# Altium footprint library SOP_65P_M.PcbLib: 39 footprints (part 2 of 3)
Each footprint in its own frame and in the unit in brackets; x right, y up, seen from the top. Pads: shape width x height; smd on the part's side, far side on the other; paste and mask are expansions set on the pad; w line width, h text height; cw(c..) or ccw(c..) is an arc to the next point about the centre after c.
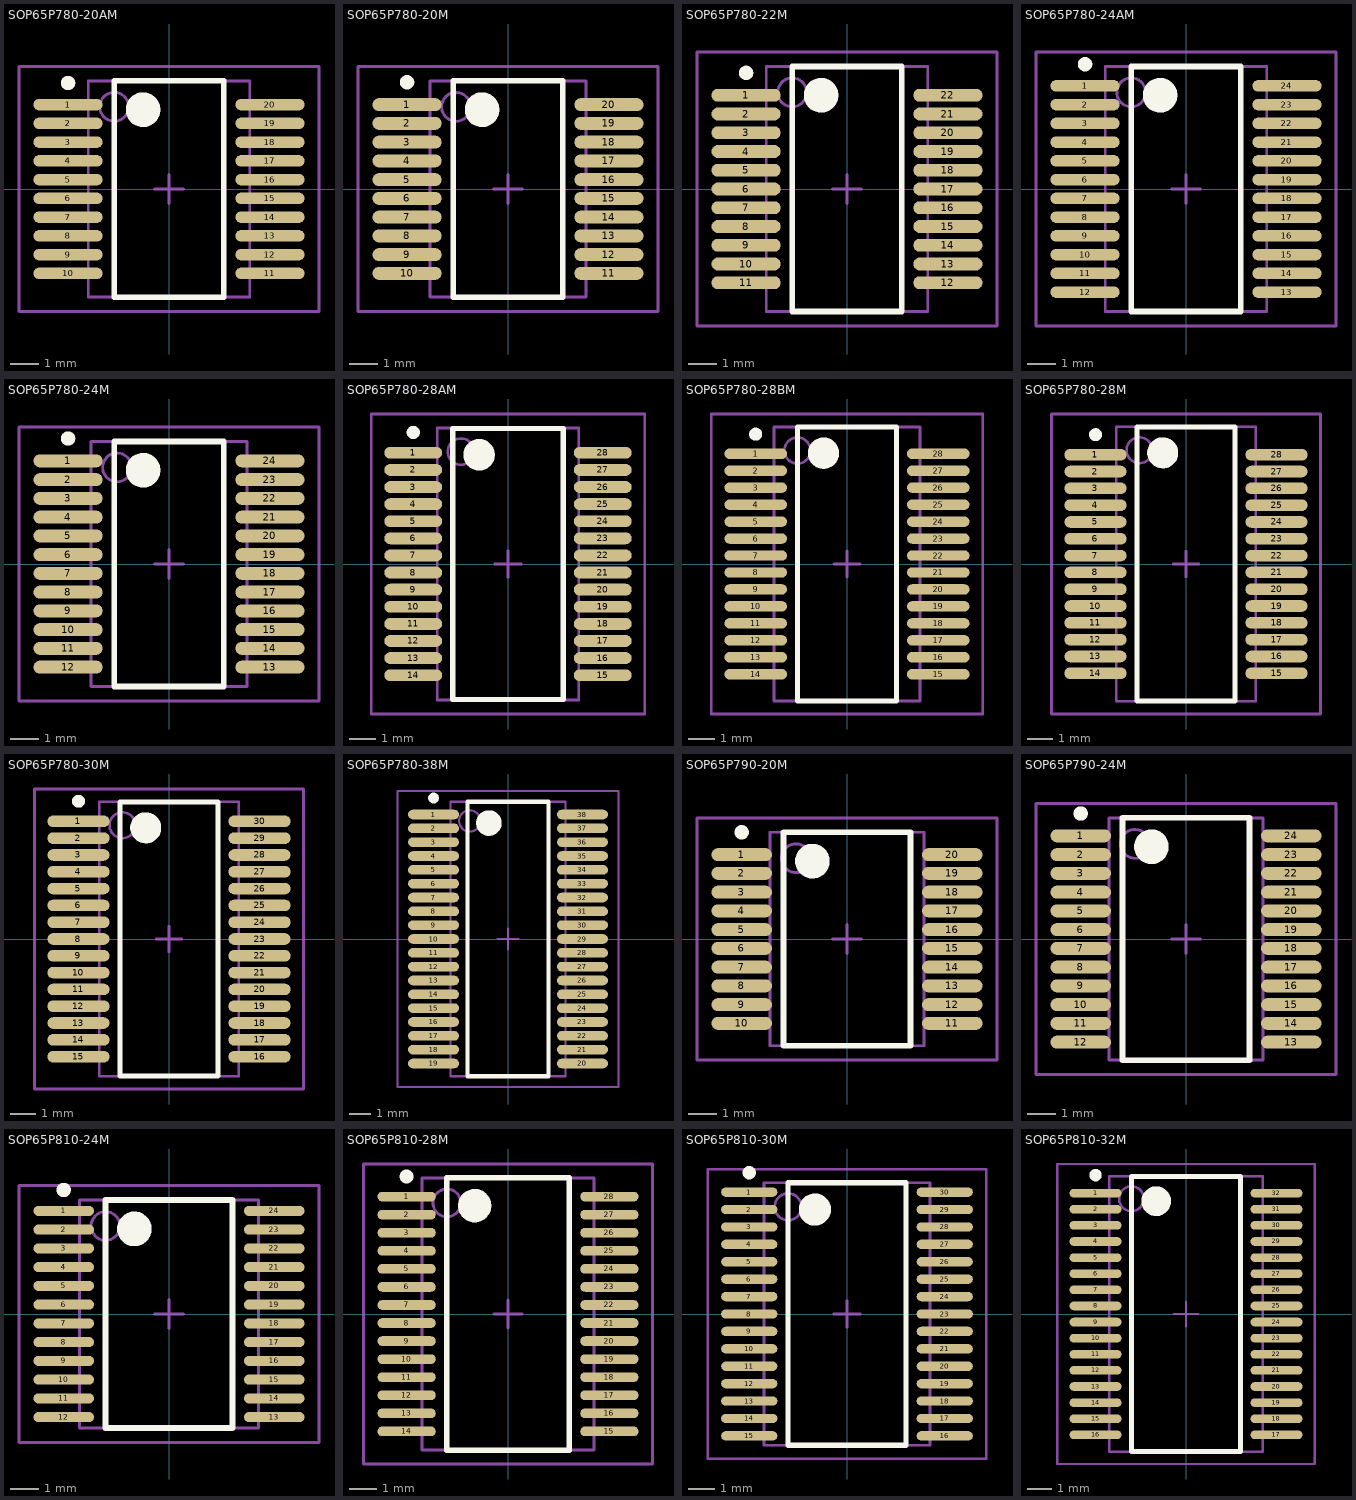
[diagram p1: the footprints below, top view; thin cyan lines are the x and y axes]

## SOP65P780-20AM [mm] "SOP, 20-Leads, Body 7.2x5.3mm, Pitch 0.65mm, IPC Low Density"
height 2
pads (20):
  oval 2.4x0.4 smd: 1(-3.5,2.925) 2(-3.5,2.275) 3(-3.5,1.625) 4(-3.5,0.975) 5(-3.5,0.325) 6(-3.5,-0.325) 7(-3.5,-0.975) 8(-3.5,-1.625) 9(-3.5,-2.275) 10(-3.5,-2.925) 11(3.5,-2.925) 12(3.5,-2.275) 13(3.5,-1.625) 14(3.5,-0.975) 15(3.5,-0.325) 16(3.5,0.325) 17(3.5,0.975) 18(3.5,1.625) 19(3.5,2.275) 20(3.5,2.925)
Top Overlay:
  circle w0.25: c-3.5,3.675 r0.125
  circle w0.6: c-0.9,2.75 r0.3
  lines w0.2: -1.9,-3.75 -1.9,3.75 1.9,3.75 1.9,-3.75 -1.9,-3.75
Mechanical 13:
  circle w0.1: c-1.9,2.85 r0.5
  lines w0.1: -2.8,-3.75 -2.8,3.75 2.8,3.75 2.8,-3.75 -2.8,-3.75
Mechanical 15:
  lines w0.1: -0.5,0 0.5,0 ; 0,-0.5 0,0.5 ; -5.2,-4.25 -5.2,4.25 5.2,4.25 5.2,-4.25 -5.2,-4.25
3D body: height 2, standoff 0, extent -2.8,-3.75 2.8,3.75

## SOP65P780-20M [mm] "SOP, 20-Leads, Body 7.2x5.3mm, Pitch 0.65mm, IPC Low Density"
height 1.98
pads (20):
  oval 2.4x0.45 smd: 1(-3.5,2.925) 2(-3.5,2.275) 3(-3.5,1.625) 4(-3.5,0.975) 5(-3.5,0.325) 6(-3.5,-0.325) 7(-3.5,-0.975) 8(-3.5,-1.625) 9(-3.5,-2.275) 10(-3.5,-2.925) 11(3.5,-2.925) 12(3.5,-2.275) 13(3.5,-1.625) 14(3.5,-0.975) 15(3.5,-0.325) 16(3.5,0.325) 17(3.5,0.975) 18(3.5,1.625) 19(3.5,2.275) 20(3.5,2.925)
Top Overlay:
  circle w0.25: c-3.5,3.7 r0.125
  circle w0.6: c-0.9,2.75 r0.3
  lines w0.2: -1.9,-3.75 -1.9,3.75 1.9,3.75 1.9,-3.75 -1.9,-3.75
Mechanical 13:
  circle w0.1: c-1.8,2.85 r0.5
  lines w0.1: -2.7,-3.75 -2.7,3.75 2.7,3.75 2.7,-3.75 -2.7,-3.75
Mechanical 15:
  lines w0.1: -0.5,0 0.5,0 ; 0,-0.5 0,0.5 ; -5.2,-4.25 -5.2,4.25 5.2,4.25 5.2,-4.25 -5.2,-4.25
3D body: height 1.98, standoff 0, extent -2.7,-3.75 2.7,3.75

## SOP65P780-22M [mm] "SOP, 22-Leads, Body 8.2x5.3mm, Pitch 0.65mm, IPC Low Density"
height 2
pads (22):
  oval 2.4x0.45 smd: 1(-3.5,3.25) 2(-3.5,2.6) 3(-3.5,1.95) 4(-3.5,1.3) 5(-3.5,0.65) 6(-3.5,0) 7(-3.5,-0.65) 8(-3.5,-1.3) 9(-3.5,-1.95) 10(-3.5,-2.6) 11(-3.5,-3.25) 12(3.5,-3.25) 13(3.5,-2.6) 14(3.5,-1.95) 15(3.5,-1.3) 16(3.5,-0.65) 17(3.5,0) 18(3.5,0.65) 19(3.5,1.3) 20(3.5,1.95) 21(3.5,2.6) 22(3.5,3.25)
Top Overlay:
  circle w0.25: c-3.5,4.025 r0.125
  circle w0.6: c-0.9,3.25 r0.3
  lines w0.2: -1.9,-4.25 -1.9,4.25 1.9,4.25 1.9,-4.25 -1.9,-4.25
Mechanical 13:
  circle w0.1: c-1.9,3.35 r0.5
  lines w0.1: -2.8,-4.25 -2.8,4.25 2.8,4.25 2.8,-4.25 -2.8,-4.25
Mechanical 15:
  lines w0.1: -0.5,0 0.5,0 ; 0,-0.5 0,0.5 ; -5.2,-4.75 -5.2,4.75 5.2,4.75 5.2,-4.75 -5.2,-4.75
3D body: height 2, standoff 0, extent -2.8,-4.25 2.8,4.25

## SOP65P780-24AM [mm] "SOP, 24-Leads, Body 8.2x5.3mm, Pitch 0.65mm, IPC Low Density"
height 2
pads (24):
  oval 2.4x0.4 smd: 1(-3.5,3.575) 2(-3.5,2.925) 3(-3.5,2.275) 4(-3.5,1.625) 5(-3.5,0.975) 6(-3.5,0.325) 7(-3.5,-0.325) 8(-3.5,-0.975) 9(-3.5,-1.625) 10(-3.5,-2.275) 11(-3.5,-2.925) 12(-3.5,-3.575) 13(3.5,-3.575) 14(3.5,-2.925) 15(3.5,-2.275) 16(3.5,-1.625) 17(3.5,-0.975) 18(3.5,-0.325) 19(3.5,0.325) 20(3.5,0.975) 21(3.5,1.625) 22(3.5,2.275) 23(3.5,2.925) 24(3.5,3.575)
Top Overlay:
  circle w0.25: c-3.5,4.325 r0.125
  circle w0.6: c-0.9,3.25 r0.3
  lines w0.2: -1.9,-4.25 -1.9,4.25 1.9,4.25 1.9,-4.25 -1.9,-4.25
Mechanical 13:
  circle w0.1: c-1.9,3.35 r0.5
  lines w0.1: -2.8,-4.25 -2.8,4.25 2.8,4.25 2.8,-4.25 -2.8,-4.25
Mechanical 15:
  lines w0.1: -0.5,0 0.5,0 ; 0,-0.5 0,0.5 ; -5.2,-4.75 -5.2,4.75 5.2,4.75 5.2,-4.75 -5.2,-4.75
3D body: height 2, standoff 0, extent -2.8,-4.25 2.8,4.25

## SOP65P780-24M [mm] "SOP, 24-Leads, Body 8.2x5.3mm, Pitch 0.65mm, IPC Low Density"
height 1.78
pads (24):
  oval 2.4x0.45 smd: 1(-3.5,3.575) 2(-3.5,2.925) 3(-3.5,2.275) 4(-3.5,1.625) 5(-3.5,0.975) 6(-3.5,0.325) 7(-3.5,-0.325) 8(-3.5,-0.975) 9(-3.5,-1.625) 10(-3.5,-2.275) 11(-3.5,-2.925) 12(-3.5,-3.575) 13(3.5,-3.575) 14(3.5,-2.925) 15(3.5,-2.275) 16(3.5,-1.625) 17(3.5,-0.975) 18(3.5,-0.325) 19(3.5,0.325) 20(3.5,0.975) 21(3.5,1.625) 22(3.5,2.275) 23(3.5,2.925) 24(3.5,3.575)
Top Overlay:
  circle w0.25: c-3.5,4.35 r0.125
  circle w0.6: c-0.9,3.25 r0.3
  lines w0.2: -1.9,-4.25 -1.9,4.25 1.9,4.25 1.9,-4.25 -1.9,-4.25
Mechanical 13:
  circle w0.1: c-1.8,3.35 r0.5
  lines w0.1: -2.7,-4.25 -2.7,4.25 2.7,4.25 2.7,-4.25 -2.7,-4.25
Mechanical 15:
  lines w0.1: -0.5,0 0.5,0 ; 0,-0.5 0,0.5 ; -5.2,-4.75 -5.2,4.75 5.2,4.75 5.2,-4.75 -5.2,-4.75
3D body: height 1.78, standoff 0, extent -2.7,-4.25 2.7,4.25

## SOP65P780-28AM [mm] "SOP, 28-Leads, Body 10.2x5.3mm, Pitch 0.65mm, IPC Low Density"
height 1.98
pads (28):
  oval 2.2x0.45 smd: 1(-3.6,4.225) 2(-3.6,3.575) 3(-3.6,2.925) 4(-3.6,2.275) 5(-3.6,1.625) 6(-3.6,0.975) 7(-3.6,0.325) 8(-3.6,-0.325) 9(-3.6,-0.975) 10(-3.6,-1.625) 11(-3.6,-2.275) 12(-3.6,-2.925) 13(-3.6,-3.575) 14(-3.6,-4.225) 15(3.6,-4.225) 16(3.6,-3.575) 17(3.6,-2.925) 18(3.6,-2.275) 19(3.6,-1.625) 20(3.6,-0.975) 21(3.6,-0.325) 22(3.6,0.325) 23(3.6,0.975) 24(3.6,1.625) 25(3.6,2.275) 26(3.6,2.925) 27(3.6,3.575) 28(3.6,4.225)
Top Overlay:
  circle w0.25: c-3.6,5 r0.125
  circle w0.6: c-1.1,4.15 r0.3
  lines w0.2: -2.1,-5.15 -2.1,5.15 2.1,5.15 2.1,-5.15 -2.1,-5.15
Mechanical 13:
  circle w0.1: c-1.79,4.27 r0.5
  lines w0.1: -2.69,-5.17 -2.69,5.17 2.69,5.17 2.69,-5.17 -2.69,-5.17
Mechanical 15:
  lines w0.1: -0.5,0 0.5,0 ; 0,-0.5 0,0.5 ; -5.2,-5.7 -5.2,5.7 5.2,5.7 5.2,-5.7 -5.2,-5.7
3D body: height 1.98, standoff 0, extent -2.69,-5.17 2.69,5.17

## SOP65P780-28BM [mm] "SOP, 28-Leads, Body 10.2x5.3mm, Pitch 0.65mm, IPC Low Density"
height 2
pads (28):
  oval 2.4x0.4 smd: 1(-3.5,4.225) 2(-3.5,3.575) 3(-3.5,2.925) 4(-3.5,2.275) 5(-3.5,1.625) 6(-3.5,0.975) 7(-3.5,0.325) 8(-3.5,-0.325) 9(-3.5,-0.975) 10(-3.5,-1.625) 11(-3.5,-2.275) 12(-3.5,-2.925) 13(-3.5,-3.575) 14(-3.5,-4.225) 15(3.5,-4.225) 16(3.5,-3.575) 17(3.5,-2.925) 18(3.5,-2.275) 19(3.5,-1.625) 20(3.5,-0.975) 21(3.5,-0.325) 22(3.5,0.325) 23(3.5,0.975) 24(3.5,1.625) 25(3.5,2.275) 26(3.5,2.925) 27(3.5,3.575) 28(3.5,4.225)
Top Overlay:
  circle w0.25: c-3.5,4.975 r0.125
  circle w0.6: c-0.9,4.25 r0.3
  lines w0.2: -1.9,-5.25 -1.9,5.25 1.9,5.25 1.9,-5.25 -1.9,-5.25
Mechanical 13:
  circle w0.1: c-1.9,4.35 r0.5
  lines w0.1: -2.8,-5.25 -2.8,5.25 2.8,5.25 2.8,-5.25 -2.8,-5.25
Mechanical 15:
  lines w0.1: -0.5,0 0.5,0 ; 0,-0.5 0,0.5 ; -5.2,-5.75 -5.2,5.75 5.2,5.75 5.2,-5.75 -5.2,-5.75
3D body: height 2, standoff 0, extent -2.8,-5.25 2.8,5.25

## SOP65P780-28M [mm] "SOP, 28-Leads, Body 10.2x5.3mm, Pitch 0.65mm, IPC Low Density"
height 2
pads (28):
  oval 2.4x0.45 smd: 1(-3.5,4.225) 2(-3.5,3.575) 3(-3.5,2.925) 4(-3.5,2.275) 5(-3.5,1.625) 6(-3.5,0.975) 7(-3.5,0.325) 8(-3.5,-0.325) 9(-3.5,-0.975) 10(-3.5,-1.625) 11(-3.5,-2.275) 12(-3.5,-2.925) 13(-3.5,-3.575) 14(-3.5,-4.225) 15(3.5,-4.225) 16(3.5,-3.575) 17(3.5,-2.925) 18(3.5,-2.275) 19(3.5,-1.625) 20(3.5,-0.975) 21(3.5,-0.325) 22(3.5,0.325) 23(3.5,0.975) 24(3.5,1.625) 25(3.5,2.275) 26(3.5,2.925) 27(3.5,3.575) 28(3.5,4.225)
Top Overlay:
  circle w0.25: c-3.5,5 r0.125
  circle w0.6: c-0.9,4.3 r0.3
  lines w0.2: -1.9,-5.3 -1.9,5.3 1.9,5.3 1.9,-5.3 -1.9,-5.3
Mechanical 13:
  circle w0.1: c-1.8,4.4 r0.5
  lines w0.1: -2.7,-5.3 -2.7,5.3 2.7,5.3 2.7,-5.3 -2.7,-5.3
Mechanical 15:
  lines w0.1: -0.5,0 0.5,0 ; 0,-0.5 0,0.5 ; -5.2,-5.8 -5.2,5.8 5.2,5.8 5.2,-5.8 -5.2,-5.8
3D body: height 2, standoff 0, extent -2.7,-5.3 2.7,5.3

## SOP65P780-30M [mm] "SOP, 30-Leads, Body 10.2x5.3mm, Pitch 0.65mm, IPC Low Density"
height 2
pads (30):
  oval 2.4x0.45 smd: 1(-3.5,4.55) 2(-3.5,3.9) 3(-3.5,3.25) 4(-3.5,2.6) 5(-3.5,1.95) 6(-3.5,1.3) 7(-3.5,0.65) 8(-3.5,0) 9(-3.5,-0.65) 10(-3.5,-1.3) 11(-3.5,-1.95) 12(-3.5,-2.6) 13(-3.5,-3.25) 14(-3.5,-3.9) 15(-3.5,-4.55) 16(3.5,-4.55) 17(3.5,-3.9) 18(3.5,-3.25) 19(3.5,-2.6) 20(3.5,-1.95) 21(3.5,-1.3) 22(3.5,-0.65) 23(3.5,0) 24(3.5,0.65) 25(3.5,1.3) 26(3.5,1.95) 27(3.5,2.6) 28(3.5,3.25) 29(3.5,3.9) 30(3.5,4.55)
Top Overlay:
  circle w0.25: c-3.5,5.325 r0.125
  circle w0.6: c-0.9,4.3 r0.3
  lines w0.2: -1.9,-5.3 -1.9,5.3 1.9,5.3 1.9,-5.3 -1.9,-5.3
Mechanical 13:
  circle w0.1: c-1.8,4.4 r0.5
  lines w0.1: -2.7,-5.3 -2.7,5.3 2.7,5.3 2.7,-5.3 -2.7,-5.3
Mechanical 15:
  lines w0.1: -0.5,0 0.5,0 ; 0,-0.5 0,0.5 ; -5.2,-5.8 -5.2,5.8 5.2,5.8 5.2,-5.8 -5.2,-5.8
3D body: height 2, standoff 0, extent -2.7,-5.3 2.7,5.3

## SOP65P780-38M [mm] "SOP, 38-Leads, Body 12.6x5.3mm, Pitch 0.65mm, IPC Low Density"
height 2
pads (38):
  oval 2.4x0.45 smd: 1(-3.5,5.85) 2(-3.5,5.2) 3(-3.5,4.55) 4(-3.5,3.9) 5(-3.5,3.25) 6(-3.5,2.6) 7(-3.5,1.95) 8(-3.5,1.3) 9(-3.5,0.65) 10(-3.5,0) 11(-3.5,-0.65) 12(-3.5,-1.3) 13(-3.5,-1.95) 14(-3.5,-2.6) 15(-3.5,-3.25) 16(-3.5,-3.9) 17(-3.5,-4.55) 18(-3.5,-5.2) 19(-3.5,-5.85) 20(3.5,-5.85) 21(3.5,-5.2) 22(3.5,-4.55) 23(3.5,-3.9) 24(3.5,-3.25) 25(3.5,-2.6) 26(3.5,-1.95) 27(3.5,-1.3) 28(3.5,-0.65) 29(3.5,0) 30(3.5,0.65) 31(3.5,1.3) 32(3.5,1.95) 33(3.5,2.6) 34(3.5,3.25) 35(3.5,3.9) 36(3.5,4.55) 37(3.5,5.2) 38(3.5,5.85)
Top Overlay:
  circle w0.25: c-3.5,6.625 r0.125
  circle w0.6: c-0.9,5.45 r0.3
  lines w0.2: -1.9,-6.45 -1.9,6.45 1.9,6.45 1.9,-6.45 -1.9,-6.45
Mechanical 13:
  circle w0.1: c-1.8,5.55 r0.5
  lines w0.1: -2.7,-6.45 -2.7,6.45 2.7,6.45 2.7,-6.45 -2.7,-6.45
Mechanical 15:
  lines w0.1: -0.5,0 0.5,0 ; 0,-0.5 0,0.5 ; -5.2,-6.95 -5.2,6.95 5.2,6.95 5.2,-6.95 -5.2,-6.95
3D body: height 2, standoff 0, extent -2.7,-6.45 2.7,6.45

## SOP65P790-20M [mm] "SOP, 20-Leads, Body 7.3x5.3mm, Pitch 0.65mm, IPC Low Density"
height 2.02
pads (20):
  oval 2.1x0.45 smd: 1(-3.65,2.925) 2(-3.65,2.275) 3(-3.65,1.625) 4(-3.65,0.975) 5(-3.65,0.325) 6(-3.65,-0.325) 7(-3.65,-0.975) 8(-3.65,-1.625) 9(-3.65,-2.275) 10(-3.65,-2.925) 11(3.65,-2.925) 12(3.65,-2.275) 13(3.65,-1.625) 14(3.65,-0.975) 15(3.65,-0.325) 16(3.65,0.325) 17(3.65,0.975) 18(3.65,1.625) 19(3.65,2.275) 20(3.65,2.925)
Top Overlay:
  circle w0.25: c-3.65,3.7 r0.125
  circle w0.6: c-1.2,2.7 r0.3
  lines w0.2: -2.2,-3.7 -2.2,3.7 2.2,3.7 2.2,-3.7 -2.2,-3.7
Mechanical 13:
  circle w0.1: c-1.775,2.8 r0.5
  lines w0.1: -2.675,-3.7 -2.675,3.7 2.675,3.7 2.675,-3.7 -2.675,-3.7
Mechanical 15:
  lines w0.1: -0.5,0 0.5,0 ; 0,-0.5 0,0.5 ; -5.2,-4.2 -5.2,4.2 5.2,4.2 5.2,-4.2 -5.2,-4.2
3D body: height 2.02, standoff 0, extent -2.675,-3.7 2.675,3.7

## SOP65P790-24M [mm] "SOP, 24-Leads, Body 8.2x5.3mm, Pitch 0.65mm, IPC Low Density"
height 2.02
pads (24):
  oval 2.1x0.45 smd: 1(-3.65,3.575) 2(-3.65,2.925) 3(-3.65,2.275) 4(-3.65,1.625) 5(-3.65,0.975) 6(-3.65,0.325) 7(-3.65,-0.325) 8(-3.65,-0.975) 9(-3.65,-1.625) 10(-3.65,-2.275) 11(-3.65,-2.925) 12(-3.65,-3.575) 13(3.65,-3.575) 14(3.65,-2.925) 15(3.65,-2.275) 16(3.65,-1.625) 17(3.65,-0.975) 18(3.65,-0.325) 19(3.65,0.325) 20(3.65,0.975) 21(3.65,1.625) 22(3.65,2.275) 23(3.65,2.925) 24(3.65,3.575)
Top Overlay:
  circle w0.25: c-3.65,4.35 r0.125
  circle w0.6: c-1.2,3.2 r0.3
  lines w0.2: -2.2,-4.2 -2.2,4.2 2.2,4.2 2.2,-4.2 -2.2,-4.2
Mechanical 13:
  circle w0.1: c-1.775,3.3 r0.5
  lines w0.1: -2.675,-4.2 -2.675,4.2 2.675,4.2 2.675,-4.2 -2.675,-4.2
Mechanical 15:
  lines w0.1: -0.5,0 0.5,0 ; 0,-0.5 0,0.5 ; -5.2,-4.7 -5.2,4.7 5.2,4.7 5.2,-4.7 -5.2,-4.7
3D body: height 2.02, standoff 0, extent -2.675,-4.2 2.675,4.2

## SOP65P810-24M [mm] "SOP, 24-Leads, Body 7.8x6.1mm, Pitch 0.65mm, IPC Low Density"
height 2
pads (24):
  oval 2.1x0.35 smd: 1(-3.65,3.575) 2(-3.65,2.925) 3(-3.65,2.275) 4(-3.65,1.625) 5(-3.65,0.975) 6(-3.65,0.325) 7(-3.65,-0.325) 8(-3.65,-0.975) 9(-3.65,-1.625) 10(-3.65,-2.275) 11(-3.65,-2.925) 12(-3.65,-3.575) 13(3.65,-3.575) 14(3.65,-2.925) 15(3.65,-2.275) 16(3.65,-1.625) 17(3.65,-0.975) 18(3.65,-0.325) 19(3.65,0.325) 20(3.65,0.975) 21(3.65,1.625) 22(3.65,2.275) 23(3.65,2.925) 24(3.65,3.575)
Top Overlay:
  circle w0.25: c-3.65,4.3 r0.125
  circle w0.6: c-1.2,2.95 r0.3
  lines w0.2: -2.2,-3.95 -2.2,3.95 2.2,3.95 2.2,-3.95 -2.2,-3.95
Mechanical 13:
  circle w0.1: c-2.2,3.05 r0.5
  lines w0.1: -3.1,-3.95 -3.1,3.95 3.1,3.95 3.1,-3.95 -3.1,-3.95
Mechanical 15:
  lines w0.1: -0.5,0 0.5,0 ; 0,-0.5 0,0.5 ; -5.2,-4.45 -5.2,4.45 5.2,4.45 5.2,-4.45 -5.2,-4.45
3D body: height 2, standoff 0, extent -3.1,-3.95 3.1,3.95

## SOP65P810-28M [mm] "SOP, 28-Leads, Body 9.7x6.1mm, Pitch 0.65mm, IPC Low Density"
height 2
pads (28):
  oval 2.1x0.35 smd: 1(-3.65,4.225) 2(-3.65,3.575) 3(-3.65,2.925) 4(-3.65,2.275) 5(-3.65,1.625) 6(-3.65,0.975) 7(-3.65,0.325) 8(-3.65,-0.325) 9(-3.65,-0.975) 10(-3.65,-1.625) 11(-3.65,-2.275) 12(-3.65,-2.925) 13(-3.65,-3.575) 14(-3.65,-4.225) 15(3.65,-4.225) 16(3.65,-3.575) 17(3.65,-2.925) 18(3.65,-2.275) 19(3.65,-1.625) 20(3.65,-0.975) 21(3.65,-0.325) 22(3.65,0.325) 23(3.65,0.975) 24(3.65,1.625) 25(3.65,2.275) 26(3.65,2.925) 27(3.65,3.575) 28(3.65,4.225)
Top Overlay:
  circle w0.25: c-3.65,4.95 r0.125
  circle w0.6: c-1.2,3.9 r0.3
  lines w0.2: -2.2,-4.9 -2.2,4.9 2.2,4.9 2.2,-4.9 -2.2,-4.9
Mechanical 13:
  circle w0.1: c-2.2,4 r0.5
  lines w0.1: -3.1,-4.9 -3.1,4.9 3.1,4.9 3.1,-4.9 -3.1,-4.9
Mechanical 15:
  lines w0.1: -0.5,0 0.5,0 ; 0,-0.5 0,0.5 ; -5.2,-5.4 -5.2,5.4 5.2,5.4 5.2,-5.4 -5.2,-5.4
3D body: height 2, standoff 0, extent -3.1,-4.9 3.1,4.9

## SOP65P810-30M [mm] "SOP, 30-Leads, Body 9.7x6.1mm, Pitch 0.65mm, IPC Low Density"
height 2
pads (30):
  oval 2.1x0.35 smd: 1(-3.65,4.55) 2(-3.65,3.9) 3(-3.65,3.25) 4(-3.65,2.6) 5(-3.65,1.95) 6(-3.65,1.3) 7(-3.65,0.65) 8(-3.65,0) 9(-3.65,-0.65) 10(-3.65,-1.3) 11(-3.65,-1.95) 12(-3.65,-2.6) 13(-3.65,-3.25) 14(-3.65,-3.9) 15(-3.65,-4.55) 16(3.65,-4.55) 17(3.65,-3.9) 18(3.65,-3.25) 19(3.65,-2.6) 20(3.65,-1.95) 21(3.65,-1.3) 22(3.65,-0.65) 23(3.65,0) 24(3.65,0.65) 25(3.65,1.3) 26(3.65,1.95) 27(3.65,2.6) 28(3.65,3.25) 29(3.65,3.9) 30(3.65,4.55)
Top Overlay:
  circle w0.25: c-3.65,5.275 r0.125
  circle w0.6: c-1.2,3.9 r0.3
  lines w0.2: -2.2,-4.9 -2.2,4.9 2.2,4.9 2.2,-4.9 -2.2,-4.9
Mechanical 13:
  circle w0.1: c-2.2,4 r0.5
  lines w0.1: -3.1,-4.9 -3.1,4.9 3.1,4.9 3.1,-4.9 -3.1,-4.9
Mechanical 15:
  lines w0.1: -0.5,0 0.5,0 ; 0,-0.5 0,0.5 ; -5.2,-5.4 -5.2,5.4 5.2,5.4 5.2,-5.4 -5.2,-5.4
3D body: height 2, standoff 0, extent -3.1,-4.9 3.1,4.9

## SOP65P810-32M [mm] "SOP, 32-Leads, Body 11x6.1mm, Pitch 0.65mm, IPC Low Density"
height 2
pads (32):
  oval 2.1x0.35 smd: 1(-3.65,4.875) 2(-3.65,4.225) 3(-3.65,3.575) 4(-3.65,2.925) 5(-3.65,2.275) 6(-3.65,1.625) 7(-3.65,0.975) 8(-3.65,0.325) 9(-3.65,-0.325) 10(-3.65,-0.975) 11(-3.65,-1.625) 12(-3.65,-2.275) 13(-3.65,-2.925) 14(-3.65,-3.575) 15(-3.65,-4.225) 16(-3.65,-4.875) 17(3.65,-4.875) 18(3.65,-4.225) 19(3.65,-3.575) 20(3.65,-2.925) 21(3.65,-2.275) 22(3.65,-1.625) 23(3.65,-0.975) 24(3.65,-0.325) 25(3.65,0.325) 26(3.65,0.975) 27(3.65,1.625) 28(3.65,2.275) 29(3.65,2.925) 30(3.65,3.575) 31(3.65,4.225) 32(3.65,4.875)
Top Overlay:
  circle w0.25: c-3.65,5.6 r0.125
  circle w0.6: c-1.2,4.55 r0.3
  lines w0.2: -2.2,-5.55 -2.2,5.55 2.2,5.55 2.2,-5.55 -2.2,-5.55
Mechanical 13:
  circle w0.1: c-2.2,4.65 r0.5
  lines w0.1: -3.1,-5.55 -3.1,5.55 3.1,5.55 3.1,-5.55 -3.1,-5.55
Mechanical 15:
  lines w0.1: -0.5,0 0.5,0 ; 0,-0.5 0,0.5 ; -5.2,-6.05 -5.2,6.05 5.2,6.05 5.2,-6.05 -5.2,-6.05
3D body: height 2, standoff 0, extent -3.1,-5.55 3.1,5.55